# EAGLE library part ADV7125 (library WakamelibGOOD)
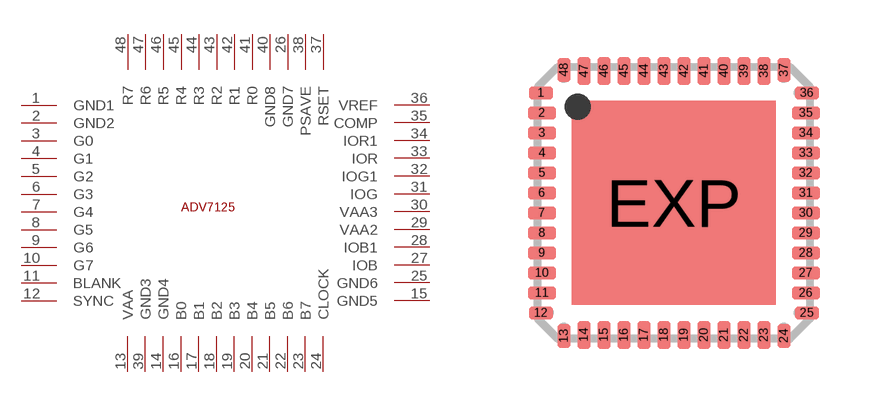
[diagram p16: symbol with the pads of LFCSP48; footprint LFCSP48]

Designator prefix -

## ADV7125  [LFCSP48]
1  GND1
2  GND2
3  G0
4  G1
5  G2
6  G3
7  G4
8  G5
9  G6
10  G7
11  BLANK
12  SYNC
13  VAA
14  GND4
15  GND5
16  B0
17  B1
18  B2
19  B3
20  B4
21  B5
22  B6
23  B7
24  CLOCK
25  GND6
26  GND7
27  IOB
28  IOB1
29  VAA2
30  VAA3
31  IOG
32  IOG1
33  IOR
34  IOR1
35  COMP
36  VREF
37  RSET
38  PSAVE
39  GND3
40  GND8
41  R0
42  R1
43  R2
44  R3
45  R4
46  R5
47  R6
48  R7

## Footprint LFCSP48 (pad centres in mm)
Lead Frame Chip Scale Package LFCSP CP-48 COMPLIANT TO JEDEC STANDARDS MO-220-VKKD-2 Source: http://www.analog.com/UploadedFiles/Data_Sheets/39780344872292AD7651_0.pdf
smd 0.6 x 0.32: 1 -3.325,2.75; 12 -3.325,-2.75; 25 3.325,-2.75; 36 3.325,2.75
smd 0.7 x 0.32: 2 -3.3,2.25; 3 -3.3,1.75; 4 -3.3,1.25; 5 -3.3,0.75; 6 -3.3,0.25; 7 -3.3,-0.25; 8 -3.3,-0.75; 9 -3.3,-1.25; 10 -3.3,-1.75; 11 -3.3,-2.25; 26 3.3,-2.25; 27 3.3,-1.75; 28 3.3,-1.25; 29 3.3,-0.75; 30 3.3,-0.25; 31 3.3,0.25; 32 3.3,0.75; 33 3.3,1.25; 34 3.3,1.75; 35 3.3,2.25
smd 0.32 x 0.6: 13 -2.75,-3.325; 24 2.75,-3.325; 37 2.75,3.325; 48 -2.75,3.325
smd 0.32 x 0.7: 14 -2.25,-3.3; 15 -1.75,-3.3; 16 -1.25,-3.3; 17 -0.75,-3.3; 18 -0.25,-3.3; 19 0.25,-3.3; 20 0.75,-3.3; 21 1.25,-3.3; 22 1.75,-3.3; 23 2.25,-3.3; 38 2.25,3.3; 39 1.75,3.3; 40 1.25,3.3; 41 0.75,3.3; 42 0.25,3.3; 43 -0.25,3.3; 44 -0.75,3.3; 45 -1.25,3.3; 46 -1.75,3.3; 47 -2.25,3.3
smd 5.1 x 5.1: EXP 0,0